# Altium integrated library RDEC71H226MWK1H03B.IntLib: 1 symbol
Pins are listed as number, name and electrical type; pins without a type are passive.

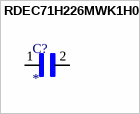
[diagram p0: symbol RDEC71H226MWK1H03B]

## RDEC71H226MWK1H03B
designator C?
Cap Ceramic 47uF 25V X7S 20% Radial 5mm 125C Bulk; MP: RDEC71H226MWK1H03B; Package: None; Price: None; Value: *; Availability: Unavailable
footprint CAP_RDEC71H226MWK1H03B
pins: 1, 2